# Altium integrated library NSC Switcher.IntLib: 2027 symbols (part 25 of 54)
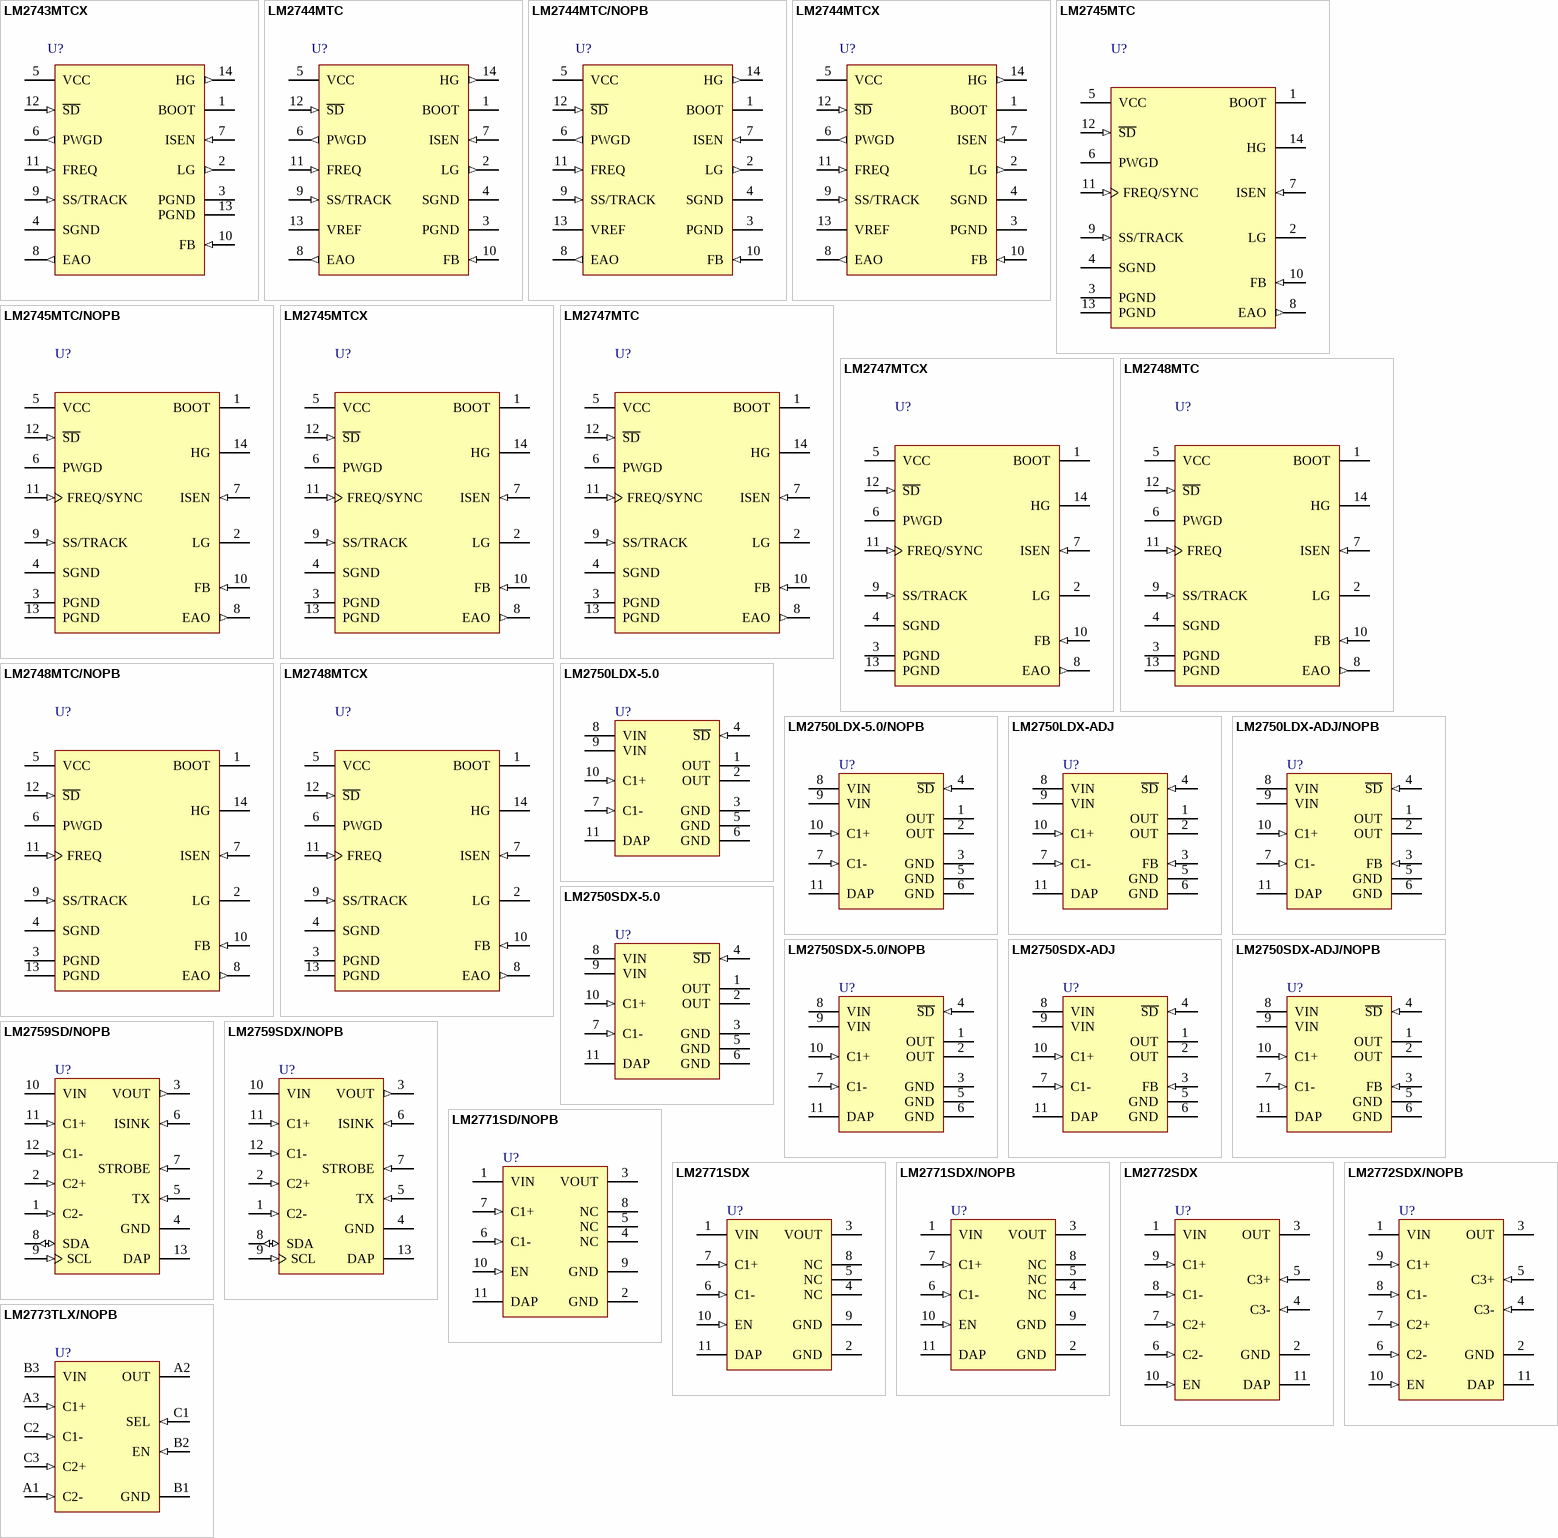
[diagram p87: symbols LM2743MTCX to LM2773TLX/NOPB]

## LM2745MTCX
designator U?
Synchronous Buck Controller with Pre-bias Startup, and Optional Clock Synchronization, 14-pin TSSOP; PartNumber: LM2745MTCX; Manufacturer: National Semiconductor; PackageTopMarking: NSUZXYTT*2745*MTC; PowerWise: Y; CompType: Switcher; Published: 1-Mar-2010; DatasheetVersion: Jan-2009; PackageVersion: revD, Jun-2003; PackageReference: MTC14; Publisher: Altium Limited; PackageDescription: Molded TSSOP, JEDEC, 5 x 4.4 x 0.9mm Body, 14 Lead, 0.65mm Pitch; RoHS: N; PinCount: 14; Code_JEDEC: MO-153-AB-1; ComponentLink1Description: LM2745 Datasheet; ComponentLink1URL: http://www.national.com/ds/LM/LM2745.pdf; ComponentLink2Description: LM2745 Web Page; ComponentLink2URL: http://www.national.com/pf/LM/LM2745.html; ComponentLink3Description: MTC14 Package Page; ComponentLink3URL: http://www.national.com/packaging/folders/mtc14.html
footprint MTC14_N (TSOP, 14-Leads, Body 5x4.4mm, Pitch 0.65mm, IPC Medium Density)
footprint MTC14_L (TSOP, 14-Leads, Body 5x4.4mm, Pitch 0.65mm, IPC High Density)
footprint MTC14_M (TSOP, 14-Leads, Body 5x4.4mm, Pitch 0.65mm, IPC Low Density)
pins: 1 BOOT, 2 LG (power), 3 PGND (power), 4 SGND (power), 5 VCC (power), 6 PWGD (oc), 7 ISEN (in), 8 EAO (out), 9 SS/TRACK (in), 10 FB (in), 11 FREQ/SYNC (in), 12 ~{SD} (in), 13 PGND (power), 14 HG (power)

## LM2747MTC
designator U?
Synchronous Buck Controller with Pre-bias Startup, and Optional Clock Synchronization, 14-pin TSSOP; PartNumber: LM2747MTC; Manufacturer: National Semiconductor; PackageTopMarking: NSUZXYTT*2747*MTC; PowerWise: Y; CompType: Switcher; Published: 4-Dec-2008; DatasheetVersion: Mar-2006; PackageVersion: revD, Jun-2003; PackageReference: MTC14; Publisher: Altium Limited; PackageDescription: Molded TSSOP, JEDEC, 5 x 4.4 x 0.9mm Body, 14 Lead, 0.65mm Pitch; Supplier 1: Farnell; Supplier Part Number 1: 1286746; RoHS: N; PinCount: 14; Code_JEDEC: MO-153-AB-1; ComponentLink1Description: LM2747 Datasheet; ComponentLink1URL: http://www.national.com/ds/LM/LM2747.pdf; ComponentLink2Description: LM2747 Web Page; ComponentLink2URL: http://www.national.com/pf/LM/LM2747.html; ComponentLink3Description: MTC14 Package Page; ComponentLink3URL: http://www.national.com/packaging/folders/mtc14.html
footprint MTC14_N (TSOP, 14-Leads, Body 5x4.4mm, Pitch 0.65mm, IPC Medium Density)
footprint MTC14_L (TSOP, 14-Leads, Body 5x4.4mm, Pitch 0.65mm, IPC High Density)
footprint MTC14_M (TSOP, 14-Leads, Body 5x4.4mm, Pitch 0.65mm, IPC Low Density)
pins: 1 BOOT, 2 LG (power), 3 PGND (power), 4 SGND (power), 5 VCC (power), 6 PWGD (oc), 7 ISEN (in), 8 EAO (out), 9 SS/TRACK (in), 10 FB (in), 11 FREQ/SYNC (in), 12 ~{SD} (in), 13 PGND (power), 14 HG (power)

## LM2747MTCX
designator U?
Synchronous Buck Controller with Pre-bias Startup, and Optional Clock Synchronization, 14-pin TSSOP; PartNumber: LM2747MTCX; Manufacturer: National Semiconductor; PackageTopMarking: NSUZXYTT*2747*MTC; PowerWise: Y; CompType: Switcher; Published: 1-Mar-2010; DatasheetVersion: Mar-2006; PackageVersion: revD, Jun-2003; PackageReference: MTC14; Publisher: Altium Limited; PackageDescription: Molded TSSOP, JEDEC, 5 x 4.4 x 0.9mm Body, 14 Lead, 0.65mm Pitch; RoHS: N; PinCount: 14; Code_JEDEC: MO-153-AB-1; ComponentLink1Description: LM2747 Datasheet; ComponentLink1URL: http://www.national.com/ds/LM/LM2747.pdf; ComponentLink2Description: LM2747 Web Page; ComponentLink2URL: http://www.national.com/pf/LM/LM2747.html; ComponentLink3Description: MTC14 Package Page; ComponentLink3URL: http://www.national.com/packaging/folders/mtc14.html
footprint MTC14_N (TSOP, 14-Leads, Body 5x4.4mm, Pitch 0.65mm, IPC Medium Density)
footprint MTC14_L (TSOP, 14-Leads, Body 5x4.4mm, Pitch 0.65mm, IPC High Density)
footprint MTC14_M (TSOP, 14-Leads, Body 5x4.4mm, Pitch 0.65mm, IPC Low Density)
pins: 1 BOOT, 2 LG (power), 3 PGND (power), 4 SGND (power), 5 VCC (power), 6 PWGD (oc), 7 ISEN (in), 8 EAO (out), 9 SS/TRACK (in), 10 FB (in), 11 FREQ/SYNC (in), 12 ~{SD} (in), 13 PGND (power), 14 HG (power)

## LM2748MTC
designator U?
Synchronous Buck Controller with Pre-bias Startup, and Optional Clock Synchronization, 14-pin TSSOP; PartNumber: LM2748MTC; Manufacturer: National Semiconductor; PackageTopMarking: NSUZXYTT*2748*MTC; PowerWise: Y; CompType: Switcher; Published: 4-Dec-2008; DatasheetVersion: Jan-2009; PackageVersion: revD, Jun-2003; PackageReference: MTC14; Publisher: Altium Limited; PackageDescription: Molded TSSOP, JEDEC, 5 x 4.4 x 0.9mm Body, 14 Lead, 0.65mm Pitch; Supplier 1: Farnell; Supplier Part Number 1: 1286747; RoHS: N; PinCount: 14; Code_JEDEC: MO-153-AB-1; ComponentLink1Description: LM2748 Datasheet; ComponentLink1URL: http://www.national.com/ds/LM/LM2748.pdf; ComponentLink2Description: LM2748 Web Page; ComponentLink2URL: http://www.national.com/pf/LM/LM2748.html; ComponentLink3Description: MTC14 Package Page; ComponentLink3URL: http://www.national.com/packaging/folders/mtc14.html
footprint MTC14_N (TSOP, 14-Leads, Body 5x4.4mm, Pitch 0.65mm, IPC Medium Density)
footprint MTC14_L (TSOP, 14-Leads, Body 5x4.4mm, Pitch 0.65mm, IPC High Density)
footprint MTC14_M (TSOP, 14-Leads, Body 5x4.4mm, Pitch 0.65mm, IPC Low Density)
pins: 1 BOOT, 2 LG (power), 3 PGND (power), 4 SGND (power), 5 VCC (power), 6 PWGD (oc), 7 ISEN (in), 8 EAO (out), 9 SS/TRACK (in), 10 FB (in), 11 FREQ (in), 12 ~{SD} (in), 13 PGND (power), 14 HG (power)

## LM2748MTC/NOPB
designator U?
Synchronous Buck Controller with Pre-bias Startup, and Optional Clock Synchronization, 14-pin TSSOP, Pb-Free; PartNumber: LM2748MTC/NOPB; Manufacturer: National Semiconductor; PackageTopMarking: NSUZXYTT*2748*MTC; PowerWise: Y; CompType: Switcher; Published: 1-Mar-2010; DatasheetVersion: Jan-2009; PackageVersion: revD, Jun-2003; PackageReference: MTC14; Publisher: Altium Limited; PackageDescription: Molded TSSOP, JEDEC, 5 x 4.4 x 0.9mm Body, 14 Lead, 0.65mm Pitch; Supplier 1: Digi-Key; Supplier Part Number 1: LM2748MTC-ND; RoHS: Y; PinCount: 14; Code_JEDEC: MO-153-AB-1; ComponentLink1Description: LM2748 Datasheet; ComponentLink1URL: http://www.national.com/ds/LM/LM2748.pdf; ComponentLink2Description: LM2748 Web Page; ComponentLink2URL: http://www.national.com/pf/LM/LM2748.html; ComponentLink3Description: MTC14 Package Page; ComponentLink3URL: http://www.national.com/packaging/folders/mtc14.html
footprint MTC14_N (TSOP, 14-Leads, Body 5x4.4mm, Pitch 0.65mm, IPC Medium Density)
footprint MTC14_L (TSOP, 14-Leads, Body 5x4.4mm, Pitch 0.65mm, IPC High Density)
footprint MTC14_M (TSOP, 14-Leads, Body 5x4.4mm, Pitch 0.65mm, IPC Low Density)
pins: 1 BOOT, 2 LG (power), 3 PGND (power), 4 SGND (power), 5 VCC (power), 6 PWGD (oc), 7 ISEN (in), 8 EAO (out), 9 SS/TRACK (in), 10 FB (in), 11 FREQ (in), 12 ~{SD} (in), 13 PGND (power), 14 HG (power)

## LM2748MTCX
designator U?
Synchronous Buck Controller with Pre-bias Startup, and Optional Clock Synchronization, 14-pin TSSOP; PartNumber: LM2748MTCX; Manufacturer: National Semiconductor; PackageTopMarking: NSUZXYTT*2748*MTC; PowerWise: Y; CompType: Switcher; Published: 1-Mar-2010; DatasheetVersion: Jan-2009; PackageVersion: revD, Jun-2003; PackageReference: MTC14; Publisher: Altium Limited; PackageDescription: Molded TSSOP, JEDEC, 5 x 4.4 x 0.9mm Body, 14 Lead, 0.65mm Pitch; RoHS: N; PinCount: 14; Code_JEDEC: MO-153-AB-1; ComponentLink1Description: LM2748 Datasheet; ComponentLink1URL: http://www.national.com/ds/LM/LM2748.pdf; ComponentLink2Description: LM2748 Web Page; ComponentLink2URL: http://www.national.com/pf/LM/LM2748.html; ComponentLink3Description: MTC14 Package Page; ComponentLink3URL: http://www.national.com/packaging/folders/mtc14.html
footprint MTC14_N (TSOP, 14-Leads, Body 5x4.4mm, Pitch 0.65mm, IPC Medium Density)
footprint MTC14_L (TSOP, 14-Leads, Body 5x4.4mm, Pitch 0.65mm, IPC High Density)
footprint MTC14_M (TSOP, 14-Leads, Body 5x4.4mm, Pitch 0.65mm, IPC Low Density)
pins: 1 BOOT, 2 LG (power), 3 PGND (power), 4 SGND (power), 5 VCC (power), 6 PWGD (oc), 7 ISEN (in), 8 EAO (out), 9 SS/TRACK (in), 10 FB (in), 11 FREQ (in), 12 ~{SD} (in), 13 PGND (power), 14 HG (power)

## LM2750LDX-5.0
designator U?
Low Noise Regulator Switched Capacitor Boost Regulator, 10-pin LLP; PartNumber: LM2750LDX-5.0; Manufacturer: National Semiconductor; PackageTopMarking: ZXYTT*S002B; PowerWise: N; CompType: Switcher; Published: 1-Mar-2010; DatasheetVersion: Dec-2005; PackageVersion: revB, Jan-2003; PackageReference: LDA10A; Publisher: Altium Limited; PackageDescription: LLP, Plastic, Dual, 3 x 3 x 0.75mm Body, 10 Lead, 0.5mm Pitch; RoHS: N; PinCount: 10; ComponentLink1Description: LM2750 Datasheet; ComponentLink1URL: http://www.national.com/ds/LM/LM2750.pdf; ComponentLink2Description: LM2750 Web Page; ComponentLink2URL: http://www.national.com/pf/LM/LM2750.html; ComponentLink3Description: LDA10A Package Page; ComponentLink3URL: http://www.national.com/packaging/folders/lda10a.html
footprint LDA10A (PSON, 10-Leads, Body 3x3mm, Pitch 0.5mm, NSC Recommended)
pins: 1 OUT (power), 2 OUT (power), 3 GND (power), 4 ~{SD} (in), 5 GND (power), 6 GND (power), 7 C1- (in), 8 VIN (power), 9 VIN (power), 10 C1+ (in), 11 DAP (power)

## LM2750LDX-5.0/NOPB
designator U?
Low Noise Regulator Switched Capacitor Boost Regulator, 10-pin LLP, Pb-Free; PartNumber: LM2750LDX-5.0/NOPB; Manufacturer: National Semiconductor; PackageTopMarking: ZXYTT*S002B; PowerWise: N; CompType: Switcher; Published: 1-Mar-2010; DatasheetVersion: Dec-2005; PackageVersion: revB, Jan-2003; PackageReference: LDA10A; Publisher: Altium Limited; PackageDescription: LLP, Plastic, Dual, 3 x 3 x 0.75mm Body, 10 Lead, 0.5mm Pitch; Supplier 1: Digi-Key; Supplier Part Number 1: LM2750LDX-5.0-ND; RoHS: Y; PinCount: 10; ComponentLink1Description: LM2750 Datasheet; ComponentLink1URL: http://www.national.com/ds/LM/LM2750.pdf; ComponentLink2Description: LM2750 Web Page; ComponentLink2URL: http://www.national.com/pf/LM/LM2750.html; ComponentLink3Description: LDA10A Package Page; ComponentLink3URL: http://www.national.com/packaging/folders/lda10a.html
footprint LDA10A (PSON, 10-Leads, Body 3x3mm, Pitch 0.5mm, NSC Recommended)
pins: 1 OUT (power), 2 OUT (power), 3 GND (power), 4 ~{SD} (in), 5 GND (power), 6 GND (power), 7 C1- (in), 8 VIN (power), 9 VIN (power), 10 C1+ (in), 11 DAP (power)

## LM2750LDX-ADJ
designator U?
Low Noise Regulator Switched Capacitor Boost Regulator, 10-pin LLP; PartNumber: LM2750LDX-ADJ; Manufacturer: National Semiconductor; PackageTopMarking: ZXYTT*S003B; PowerWise: N; CompType: Switcher; Published: 1-Mar-2010; DatasheetVersion: Dec-2005; PackageVersion: revB, Jan-2003; PackageReference: LDA10A; Publisher: Altium Limited; PackageDescription: LLP, Plastic, Dual, 3 x 3 x 0.75mm Body, 10 Lead, 0.5mm Pitch; RoHS: N; PinCount: 10; ComponentLink1Description: LM2750 Datasheet; ComponentLink1URL: http://www.national.com/ds/LM/LM2750.pdf; ComponentLink2Description: LM2750 Web Page; ComponentLink2URL: http://www.national.com/pf/LM/LM2750.html; ComponentLink3Description: LDA10A Package Page; ComponentLink3URL: http://www.national.com/packaging/folders/lda10a.html
footprint LDA10A (PSON, 10-Leads, Body 3x3mm, Pitch 0.5mm, NSC Recommended)
pins: 1 OUT (power), 2 OUT (power), 3 FB (in), 4 ~{SD} (in), 5 GND (power), 6 GND (power), 7 C1- (in), 8 VIN (power), 9 VIN (power), 10 C1+ (in), 11 DAP (power)

## LM2750LDX-ADJ/NOPB
designator U?
Low Noise Regulator Switched Capacitor Boost Regulator, 10-pin LLP, Pb-Free; PartNumber: LM2750LDX-ADJ/NOPB; Manufacturer: National Semiconductor; PackageTopMarking: ZXYTT*S003B; PowerWise: N; CompType: Switcher; Published: 1-Mar-2010; DatasheetVersion: Dec-2005; PackageVersion: revB, Jan-2003; PackageReference: LDA10A; Publisher: Altium Limited; PackageDescription: LLP, Plastic, Dual, 3 x 3 x 0.75mm Body, 10 Lead, 0.5mm Pitch; Supplier 1: Digi-Key; Supplier Part Number 1: LM2750LDX-ADJ-ND; RoHS: Y; PinCount: 10; ComponentLink1Description: LM2750 Datasheet; ComponentLink1URL: http://www.national.com/ds/LM/LM2750.pdf; ComponentLink2Description: LM2750 Web Page; ComponentLink2URL: http://www.national.com/pf/LM/LM2750.html; ComponentLink3Description: LDA10A Package Page; ComponentLink3URL: http://www.national.com/packaging/folders/lda10a.html
footprint LDA10A (PSON, 10-Leads, Body 3x3mm, Pitch 0.5mm, NSC Recommended)
pins: 1 OUT (power), 2 OUT (power), 3 FB (in), 4 ~{SD} (in), 5 GND (power), 6 GND (power), 7 C1- (in), 8 VIN (power), 9 VIN (power), 10 C1+ (in), 11 DAP (power)

## LM2750SDX-5.0
designator U?
Low Noise Regulator Switched Capacitor Boost Regulator, 10-pin LLP; PartNumber: LM2750SDX-5.0; Manufacturer: National Semiconductor; PackageTopMarking: ZXYTT*S005B; PowerWise: N; CompType: Switcher; Published: 1-Mar-2010; DatasheetVersion: Dec-2005; PackageVersion: revA, Oct-2003; PackageReference: SDA10A; Publisher: Altium Limited; PackageDescription: LLP, Plastic, Dual, 3 x 3 x 0.8mm Body, 10 Lead, 0.5mm Pitch, No Pullback; RoHS: N; PinCount: 10; ComponentLink1Description: LM2750 Datasheet; ComponentLink1URL: http://www.national.com/ds/LM/LM2750.pdf; ComponentLink2Description: LM2750 Web Page; ComponentLink2URL: http://www.national.com/pf/LM/LM2750.html; ComponentLink3Description: SDA10A Package Page; ComponentLink3URL: http://www.national.com/packaging/folders/sda10a.html
footprint SDA10A (SON, 10-Leads, Body 3x3 mm, Pitch 0.5mm, NSC Recommended)
pins: 1 OUT (power), 2 OUT (power), 3 GND (power), 4 ~{SD} (in), 5 GND (power), 6 GND (power), 7 C1- (in), 8 VIN (power), 9 VIN (power), 10 C1+ (in), 11 DAP (power)

## LM2750SDX-5.0/NOPB
designator U?
Low Noise Regulator Switched Capacitor Boost Regulator, 10-pin LLP, Pb-Free; PartNumber: LM2750SDX-5.0/NOPB; Manufacturer: National Semiconductor; PackageTopMarking: ZXYTT*S005B; PowerWise: N; CompType: Switcher; Published: 1-Mar-2010; DatasheetVersion: Dec-2005; PackageVersion: revA, Oct-2003; PackageReference: SDA10A; Publisher: Altium Limited; PackageDescription: LLP, Plastic, Dual, 3 x 3 x 0.8mm Body, 10 Lead, 0.5mm Pitch, No Pullback; Supplier 1: Digi-Key; Supplier Part Number 1: LM2750SDX-5.0-ND; RoHS: Y; PinCount: 10; ComponentLink1Description: LM2750 Datasheet; ComponentLink1URL: http://www.national.com/ds/LM/LM2750.pdf; ComponentLink2Description: LM2750 Web Page; ComponentLink2URL: http://www.national.com/pf/LM/LM2750.html; ComponentLink3Description: SDA10A Package Page; ComponentLink3URL: http://www.national.com/packaging/folders/sda10a.html
footprint SDA10A (SON, 10-Leads, Body 3x3 mm, Pitch 0.5mm, NSC Recommended)
pins: 1 OUT (power), 2 OUT (power), 3 GND (power), 4 ~{SD} (in), 5 GND (power), 6 GND (power), 7 C1- (in), 8 VIN (power), 9 VIN (power), 10 C1+ (in), 11 DAP (power)

## LM2750SDX-ADJ
designator U?
Low Noise Regulator Switched Capacitor Boost Regulator, 10-pin LLP; PartNumber: LM2750SDX-ADJ; Manufacturer: National Semiconductor; PackageTopMarking: ZXYTT*S004B; PowerWise: N; CompType: Switcher; Published: 1-Mar-2010; DatasheetVersion: Dec-2005; PackageVersion: revA, Oct-2003; PackageReference: SDA10A; Publisher: Altium Limited; PackageDescription: LLP, Plastic, Dual, 3 x 3 x 0.8mm Body, 10 Lead, 0.5mm Pitch, No Pullback; RoHS: N; PinCount: 10; ComponentLink1Description: LM2750 Datasheet; ComponentLink1URL: http://www.national.com/ds/LM/LM2750.pdf; ComponentLink2Description: LM2750 Web Page; ComponentLink2URL: http://www.national.com/pf/LM/LM2750.html; ComponentLink3Description: SDA10A Package Page; ComponentLink3URL: http://www.national.com/packaging/folders/sda10a.html
footprint SDA10A (SON, 10-Leads, Body 3x3 mm, Pitch 0.5mm, NSC Recommended)
pins: 1 OUT (power), 2 OUT (power), 3 FB (in), 4 ~{SD} (in), 5 GND (power), 6 GND (power), 7 C1- (in), 8 VIN (power), 9 VIN (power), 10 C1+ (in), 11 DAP (power)

## LM2750SDX-ADJ/NOPB
designator U?
Low Noise Regulator Switched Capacitor Boost Regulator, 10-pin LLP, Pb-Free; PartNumber: LM2750SDX-ADJ/NOPB; Manufacturer: National Semiconductor; PackageTopMarking: ZXYTT*S004B; PowerWise: N; CompType: Switcher; Published: 1-Mar-2010; DatasheetVersion: Dec-2005; PackageVersion: revA, Oct-2003; PackageReference: SDA10A; Publisher: Altium Limited; PackageDescription: LLP, Plastic, Dual, 3 x 3 x 0.8mm Body, 10 Lead, 0.5mm Pitch, No Pullback; Supplier 1: Digi-Key; Supplier Part Number 1: LM2750SDX-ADJ-ND; RoHS: Y; PinCount: 10; ComponentLink1Description: LM2750 Datasheet; ComponentLink1URL: http://www.national.com/ds/LM/LM2750.pdf; ComponentLink2Description: LM2750 Web Page; ComponentLink2URL: http://www.national.com/pf/LM/LM2750.html; ComponentLink3Description: SDA10A Package Page; ComponentLink3URL: http://www.national.com/packaging/folders/sda10a.html
footprint SDA10A (SON, 10-Leads, Body 3x3 mm, Pitch 0.5mm, NSC Recommended)
pins: 1 OUT (power), 2 OUT (power), 3 FB (in), 4 ~{SD} (in), 5 GND (power), 6 GND (power), 7 C1- (in), 8 VIN (power), 9 VIN (power), 10 C1+ (in), 11 DAP (power)

## LM2759SD/NOPB
designator U?
1A Switched Capacitor Flash LED Driver with I2C Compatible Interface, 12-pin LLP, Pb-Free; PartNumber: LM2759SD/NOPB; Manufacturer: National Semiconductor; PackageTopMarking: ZXYTT*L2759; PowerWise: Y; CompType: Switcher; Published: 1-Mar-2010; DatasheetVersion: Feb-2010; PackageVersion: revB, Jul-2008; PackageReference: SDF12A; Publisher: Altium Limited; PackageDescription: LLP, Plastic, Dual, 3 x 3 x 0.8mm Body, 12 Lead, 0.4mm Pitch, No Pullback; Supplier 1: Digi-Key; Supplier Part Number 1: LM2759SDTR-ND; Supplier 2: Digi-Key; Supplier Part Number 2: LM2759SDCT-ND; Supplier 3: Digi-Key; Supplier Part Number 3: LM2759SDDKR-ND; RoHS: Y; PinCount: 12; ComponentLink1Description: LM2759 Datasheet; ComponentLink1URL: http://www.national.com/ds/LM/LM2759.pdf; ComponentLink2Description: LM2759 Web Page; ComponentLink2URL: http://www.national.com/pf/LM/LM2759.html; ComponentLink3Description: SDF12A Package Page; ComponentLink3URL: http://www.national.com/packaging/folders/sdf12a.html
footprint SDF12A (SON, 12-Leads, Body 3x3mm, Pitch 0.4mm, NSC Recommended)
pins: 1 C2- (in), 2 C2+ (in), 3 VOUT (out), 4 GND (power), 5 TX (in), 6 ISINK (in), 7 STROBE (in), 8 SDA (io), 9 SCL (in), 10 VIN (power), 11 C1+ (in), 12 C1- (in), 13 DAP (power)

## LM2759SDX/NOPB
designator U?
1A Switched Capacitor Flash LED Driver with I2C Compatible Interface, 12-pin LLP, Pb-Free; PartNumber: LM2759SDX/NOPB; Manufacturer: National Semiconductor; PackageTopMarking: ZXYTT*L2759; PowerWise: Y; CompType: Switcher; Published: 1-Mar-2010; DatasheetVersion: Feb-2010; PackageVersion: revB, Jul-2008; PackageReference: SDF12A; Publisher: Altium Limited; PackageDescription: LLP, Plastic, Dual, 3 x 3 x 0.8mm Body, 12 Lead, 0.4mm Pitch, No Pullback; Supplier 1: Digi-Key; Supplier Part Number 1: LM2759SDX-ND; RoHS: Y; PinCount: 12; ComponentLink1Description: LM2759 Datasheet; ComponentLink1URL: http://www.national.com/ds/LM/LM2759.pdf; ComponentLink2Description: LM2759 Web Page; ComponentLink2URL: http://www.national.com/pf/LM/LM2759.html; ComponentLink3Description: SDF12A Package Page; ComponentLink3URL: http://www.national.com/packaging/folders/sdf12a.html
footprint SDF12A (SON, 12-Leads, Body 3x3mm, Pitch 0.4mm, NSC Recommended)
pins: 1 C2- (in), 2 C2+ (in), 3 VOUT (out), 4 GND (power), 5 TX (in), 6 ISINK (in), 7 STROBE (in), 8 SDA (io), 9 SCL (in), 10 VIN (power), 11 C1+ (in), 12 C1- (in), 13 DAP (power)

## LM2771SD/NOPB
designator U?
Low-Ripple 250mA Switched Capacitor Step-Down DC/DC Converter, 10-pin LLP, Pb-Free; PartNumber: LM2771SD/NOPB; Manufacturer: National Semiconductor; PackageTopMarking: ZXYTT*L2771; PowerWise: N; CompType: Switcher; Published: 1-Mar-2010; DatasheetVersion: Mar-2006; PackageVersion: revA, Oct-2003; PackageReference: SDA10A; Publisher: Altium Limited; PackageDescription: LLP, Plastic, Dual, 3 x 3 x 0.8mm Body, 10 Lead, 0.5mm Pitch, No Pullback; Supplier 1: Digi-Key; Supplier Part Number 1: LM2771SDTR-ND; Supplier 2: Digi-Key; Supplier Part Number 2: LM2771SDCT-ND; Supplier 3: Digi-Key; Supplier Part Number 3: LM2771SDDKR-ND; RoHS: Y; PinCount: 10; ComponentLink1Description: LM2771 Datasheet; ComponentLink1URL: http://www.national.com/ds/LM/LM2771.pdf; ComponentLink2Description: LM2771 Web Page; ComponentLink2URL: http://www.national.com/pf/LM/LM2771.html; ComponentLink3Description: SDA10A Package Page; ComponentLink3URL: http://www.national.com/packaging/folders/sda10a.html
footprint SDA10A (SON, 10-Leads, Body 3x3 mm, Pitch 0.5mm, NSC Recommended)
pins: 1 VIN (power), 2 GND (power), 3 VOUT (power), 4 NC, 5 NC, 6 C1- (in), 7 C1+ (in), 8 NC, 9 GND (power), 10 EN (in), 11 DAP (power)

## LM2771SDX
designator U?
Low-Ripple 250mA Switched Capacitor Step-Down DC/DC Converter, 10-pin LLP; PartNumber: LM2771SDX; Manufacturer: National Semiconductor; PackageTopMarking: ZXYTT*L2771; PowerWise: N; CompType: Switcher; Published: 1-Mar-2010; DatasheetVersion: Mar-2006; PackageVersion: revA, Oct-2003; PackageReference: SDA10A; Publisher: Altium Limited; PackageDescription: LLP, Plastic, Dual, 3 x 3 x 0.8mm Body, 10 Lead, 0.5mm Pitch, No Pullback; RoHS: N; PinCount: 10; ComponentLink1Description: LM2771 Datasheet; ComponentLink1URL: http://www.national.com/ds/LM/LM2771.pdf; ComponentLink2Description: LM2771 Web Page; ComponentLink2URL: http://www.national.com/pf/LM/LM2771.html; ComponentLink3Description: SDA10A Package Page; ComponentLink3URL: http://www.national.com/packaging/folders/sda10a.html
footprint SDA10A (SON, 10-Leads, Body 3x3 mm, Pitch 0.5mm, NSC Recommended)
pins: 1 VIN (power), 2 GND (power), 3 VOUT (power), 4 NC, 5 NC, 6 C1- (in), 7 C1+ (in), 8 NC, 9 GND (power), 10 EN (in), 11 DAP (power)

## LM2771SDX/NOPB
designator U?
Low-Ripple 250mA Switched Capacitor Step-Down DC/DC Converter, 10-pin LLP, Pb-Free; PartNumber: LM2771SDX/NOPB; Manufacturer: National Semiconductor; PackageTopMarking: ZXYTT*L2771; PowerWise: N; CompType: Switcher; Published: 1-Mar-2010; DatasheetVersion: Mar-2006; PackageVersion: revA, Oct-2003; PackageReference: SDA10A; Publisher: Altium Limited; PackageDescription: LLP, Plastic, Dual, 3 x 3 x 0.8mm Body, 10 Lead, 0.5mm Pitch, No Pullback; Supplier 1: Digi-Key; Supplier Part Number 1: LM2771SDX-ND; RoHS: Y; PinCount: 10; ComponentLink1Description: LM2771 Datasheet; ComponentLink1URL: http://www.national.com/ds/LM/LM2771.pdf; ComponentLink2Description: LM2771 Web Page; ComponentLink2URL: http://www.national.com/pf/LM/LM2771.html; ComponentLink3Description: SDA10A Package Page; ComponentLink3URL: http://www.national.com/packaging/folders/sda10a.html
footprint SDA10A (SON, 10-Leads, Body 3x3 mm, Pitch 0.5mm, NSC Recommended)
pins: 1 VIN (power), 2 GND (power), 3 VOUT (power), 4 NC, 5 NC, 6 C1- (in), 7 C1+ (in), 8 NC, 9 GND (power), 10 EN (in), 11 DAP (power)

## LM2772SDX
designator U?
Low-Ripple Switched Capacitor Step-Down Regulator, 10-pin LLP; PartNumber: LM2772SDX; Manufacturer: National Semiconductor; PackageTopMarking: ZXYTT*L2772; PowerWise: N; CompType: Switcher; Published: 1-Mar-2010; DatasheetVersion: Dec-2006; PackageVersion: revA, Oct-2003; PackageReference: SDA10A; Publisher: Altium Limited; PackageDescription: LLP, Plastic, Dual, 3 x 3 x 0.8mm Body, 10 Lead, 0.5mm Pitch, No Pullback; RoHS: N; PinCount: 10; ComponentLink1Description: LM2772 Datasheet; ComponentLink1URL: http://www.national.com/ds/LM/LM2772.pdf; ComponentLink2Description: LM2772 Web Page; ComponentLink2URL: http://www.national.com/pf/LM/LM2772.html; ComponentLink3Description: SDA10A Package Page; ComponentLink3URL: http://www.national.com/packaging/folders/sda10a.html
footprint SDA10A (SON, 10-Leads, Body 3x3 mm, Pitch 0.5mm, NSC Recommended)
pins: 1 VIN (power), 2 GND (power), 3 OUT (power), 4 C3- (in), 5 C3+ (in), 6 C2- (in), 7 C2+ (in), 8 C1- (in), 9 C1+ (in), 10 EN (in), 11 DAP (power)

## LM2772SDX/NOPB
designator U?
Low-Ripple Switched Capacitor Step-Down Regulator, 10-pin LLP, Pb-Free; PartNumber: LM2772SDX/NOPB; Manufacturer: National Semiconductor; PackageTopMarking: ZXYTT*L2772; PowerWise: N; CompType: Switcher; Published: 1-Mar-2010; DatasheetVersion: Dec-2006; PackageVersion: revA, Oct-2003; PackageReference: SDA10A; Publisher: Altium Limited; PackageDescription: LLP, Plastic, Dual, 3 x 3 x 0.8mm Body, 10 Lead, 0.5mm Pitch, No Pullback; Supplier 1: Digi-Key; Supplier Part Number 1: LM2772SDX-ND; RoHS: Y; PinCount: 10; ComponentLink1Description: LM2772 Datasheet; ComponentLink1URL: http://www.national.com/ds/LM/LM2772.pdf; ComponentLink2Description: LM2772 Web Page; ComponentLink2URL: http://www.national.com/pf/LM/LM2772.html; ComponentLink3Description: SDA10A Package Page; ComponentLink3URL: http://www.national.com/packaging/folders/sda10a.html
footprint SDA10A (SON, 10-Leads, Body 3x3 mm, Pitch 0.5mm, NSC Recommended)
pins: 1 VIN (power), 2 GND (power), 3 OUT (power), 4 C3- (in), 5 C3+ (in), 6 C2- (in), 7 C2+ (in), 8 C1- (in), 9 C1+ (in), 10 EN (in), 11 DAP (power)

## LM2773TLX/NOPB
designator U?
Low-Ripple 1.8V/1.6V Spread-Spectrum Switched Capacitor Step-Down Regulator, 9-pin Micro SMD, Pb-Free; PartNumber: LM2773TLX/NOPB; Manufacturer: National Semiconductor; PackageTopMarking: XV*I DJ; PowerWise: N; CompType: Switcher; Published: 1-Mar-2010; DatasheetVersion: Jan-2008; PackageVersion: revC, Jan-2004; PackageReference: TLA09ZZA; Publisher: Altium Limited; PackageDescription: Thin Micro SMD, 9 Bump (Large), 0.5mm Pitch; Supplier 1: Digi-Key; Supplier Part Number 1: LM2773TLX-ND; RoHS: Y; PinCount: 9; Code_JEDEC: MO-211-DD; ComponentLink1Description: LM2773 Datasheet; ComponentLink1URL: http://www.national.com/ds/LM/LM2773.pdf; ComponentLink2Description: LM2773 Web Page; ComponentLink2URL: http://www.national.com/pf/LM/LM2773.html; ComponentLink3Description: TLA09ZZA Package Page; ComponentLink3URL: http://www.national.com/packaging/folders/tla09zza.html
footprint TLA09ZZA (Micro SMD, 9-Leads, Body 1.47x1.47mm, Pitch 0.5mm, NSC Recommended)
pins: A1 C2- (in), A2 OUT (power), A3 C1+ (in), B1 GND (power), B2 EN (in), B3 VIN (power), C1 SEL (in), C2 C1- (in), C3 C2+ (in)

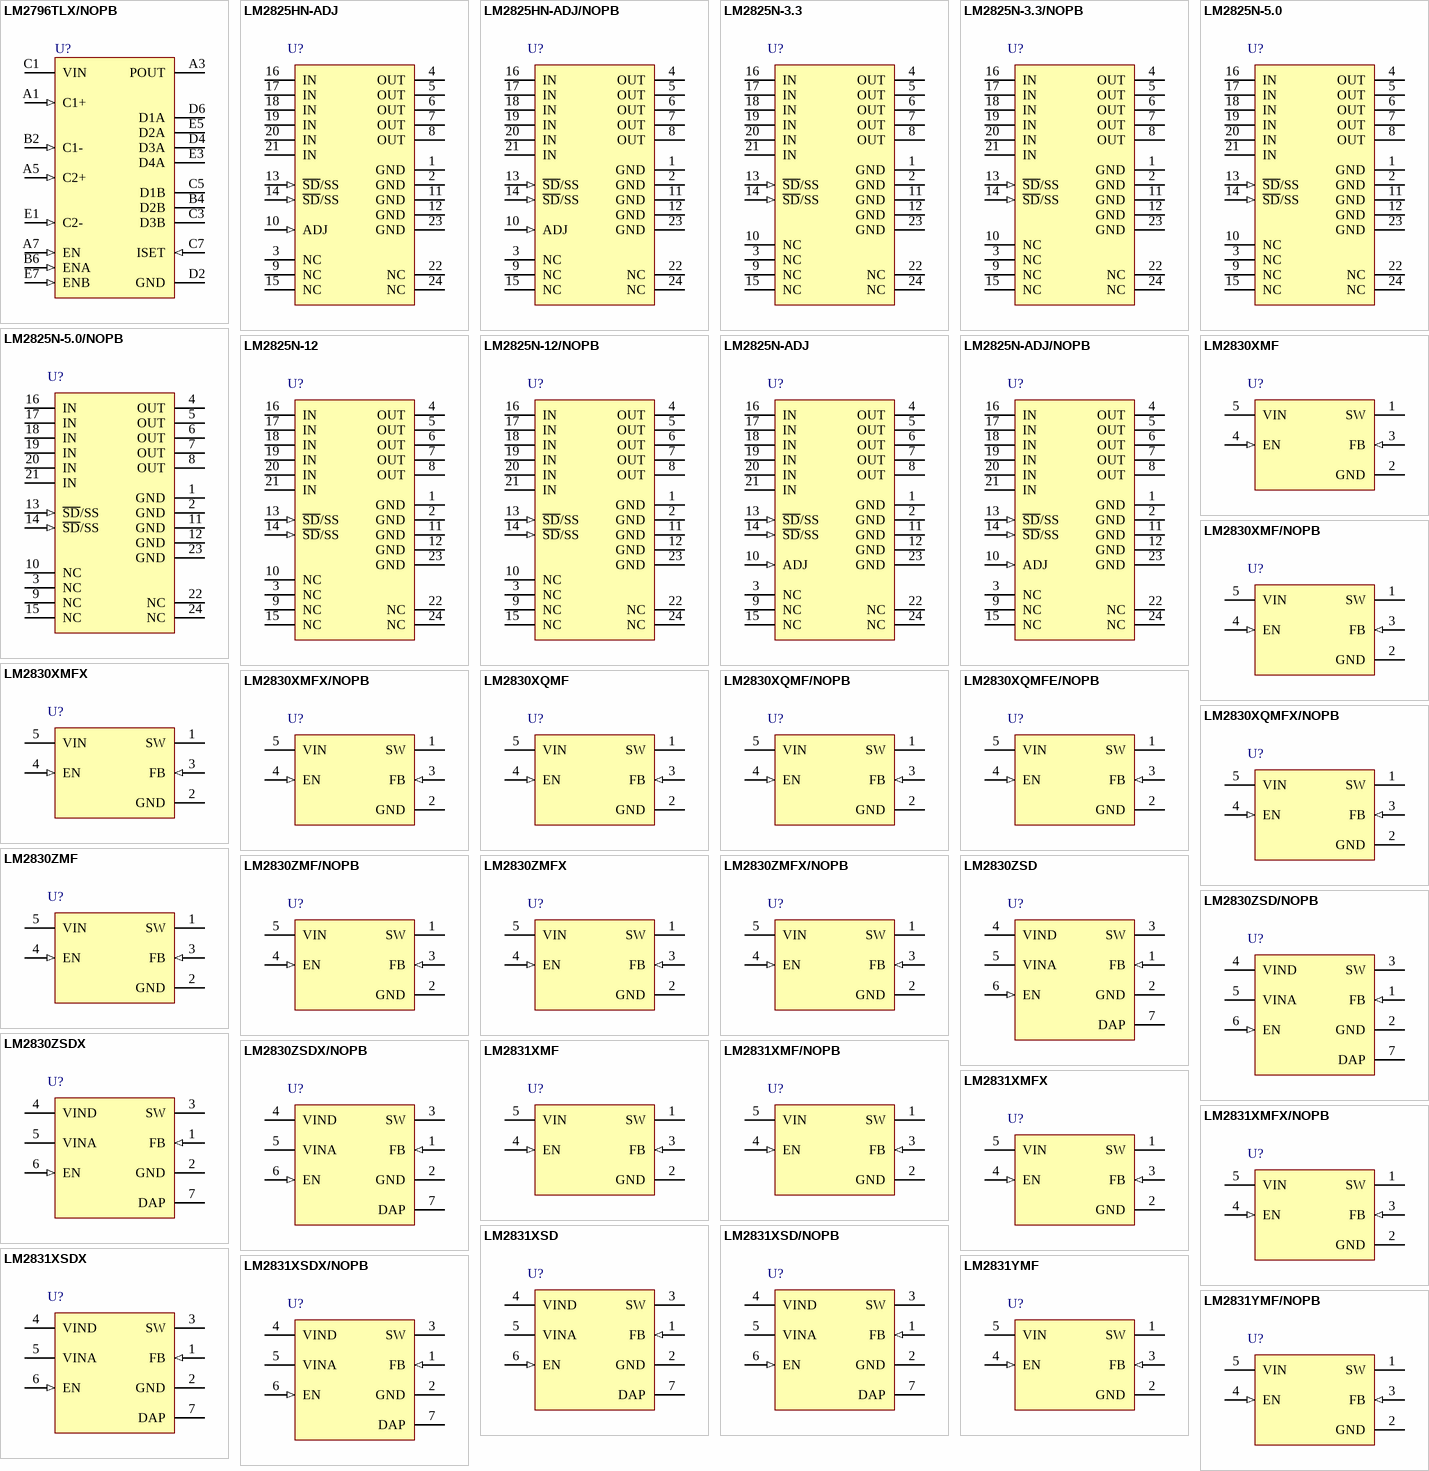
[diagram p27: symbols LM2796TLX/NOPB to LM2831YMF/NOPB]

## LM2796TLX/NOPB
designator U?
Dual-Display White LED Driver with 3/2x Switched Capacitor Boost, 18-pin Micro SMD, Pb-Free; PartNumber: LM2796TLX/NOPB; Manufacturer: National Semiconductor; PackageTopMarking: XYTT*I SAJB; PowerWise: Y; CompType: Switcher; Published: 1-Mar-2010; DatasheetVersion: Feb-2004; PackageVersion: revD, Jan-2005; PackageReference: TLA18EHA; Publisher: Altium Limited; PackageDescription: Thin Micro SMD, 18 Bump (Large), 0.5mm Pitch; Supplier 1: Digi-Key; Supplier Part Number 1: LM2796TLX-ND; RoHS: Y; PinCount: 18; ComponentLink1Description: LM2796 Datasheet; ComponentLink1URL: http://www.national.com/ds/LM/LM2796.pdf; ComponentLink2Description: LM2796 Web Page; ComponentLink2URL: http://www.national.com/pf/LM/LM2796.html; ComponentLink3Description: TLA18EHA Package Page; ComponentLink3URL: http://www.national.com/packaging/folders/tla18eha.html
footprint TLA18EHA (Micro SMD, 18-Leads, Body 2.4x2.1mm, Pitch 0.5mm, NSC Recommended)
pins: A1 C1+ (in), A3 POUT (power), A5 C2+ (in), A7 EN (in), B2 C1- (in), B4 D2B (oc), B6 ENA (in), C1 VIN (power), C3 D3B (oc), C5 D1B (oc), C7 ISET (in), D2 GND (power), D4 D3A (oc), D6 D1A (oc), E1 C2- (in), E3 D4A (oc), E5 D2A (oc), E7 ENB (in)

## LM2825HN-ADJ
designator U?
Integrated Power Supply 1A DC-DC Converter, 24-pin MDIP; PartNumber: LM2825HN-ADJ; Manufacturer: National Semiconductor; PackageTopMarking: @SIMPLE SWITCHERTM*ZXXYYTT*LM2825HN-ADJ*ADJ, 1A OUTPUT; PowerWise: N; CompType: Switcher; Published: 4-Dec-2008; DatasheetVersion: May-1997; PackageVersion: revD, Feb-1996; PackageReference: NA24F; Publisher: Altium Limited; PackageDescription: Molded Dip, 24 Lead, IPS1; Supplier 1: Farnell; Supplier Part Number 1: 8221987; RoHS: N; PinCount: 24; ComponentLink1Description: LM2825 Datasheet; ComponentLink1URL: http://www.national.com/ds/LM/LM2825.pdf; ComponentLink2Description: LM2825 Web Page; ComponentLink2URL: http://www.national.com/pf/LM/LM2825.html; ComponentLink3Description: NA24F Package Page; ComponentLink3URL: http://www.national.com/packaging/folders/na24f.html
footprint NA24F (DIP, 24-Leads, Row Spacing 15.24mm, Pitch 2.54mm, Body 31.75x13.72mm)
pins: 1 GND (power), 2 GND (power), 3 NC, 4 OUT (power), 5 OUT (power), 6 OUT (power), 7 OUT (power), 8 OUT (power), 9 NC, 10 ADJ (in), 11 GND (power), 12 GND (power), 13 ~{SD}/SS (in), 14 ~{SD}/SS (in), 15 NC, 16 IN (power), 17 IN (power), 18 IN (power), 19 IN (power), 20 IN (power), 21 IN (power), 22 NC, 23 GND (power), 24 NC

## LM2825HN-ADJ/NOPB
designator U?
Integrated Power Supply 1A DC-DC Converter, 24-pin MDIP, Pb-Free; PartNumber: LM2825HN-ADJ/NOPB; Manufacturer: National Semiconductor; PackageTopMarking: @SIMPLE SWITCHERTM*ZXXYYTT*LM2825HN-ADJ*ADJ, 1A OUTPUT; PowerWise: N; CompType: Switcher; Published: 1-Mar-2010; DatasheetVersion: May-1997; PackageVersion: revD, Feb-1996; PackageReference: NA24F; Publisher: Altium Limited; PackageDescription: Molded Dip, 24 Lead, IPS1; Supplier 1: Digi-Key; Supplier Part Number 1: LM2825HN-ADJ-ND; RoHS: Y; PinCount: 24; ComponentLink1Description: LM2825 Datasheet; ComponentLink1URL: http://www.national.com/ds/LM/LM2825.pdf; ComponentLink2Description: LM2825 Web Page; ComponentLink2URL: http://www.national.com/pf/LM/LM2825.html; ComponentLink3Description: NA24F Package Page; ComponentLink3URL: http://www.national.com/packaging/folders/na24f.html
footprint NA24F (DIP, 24-Leads, Row Spacing 15.24mm, Pitch 2.54mm, Body 31.75x13.72mm)
pins: 1 GND (power), 2 GND (power), 3 NC, 4 OUT (power), 5 OUT (power), 6 OUT (power), 7 OUT (power), 8 OUT (power), 9 NC, 10 ADJ (in), 11 GND (power), 12 GND (power), 13 ~{SD}/SS (in), 14 ~{SD}/SS (in), 15 NC, 16 IN (power), 17 IN (power), 18 IN (power), 19 IN (power), 20 IN (power), 21 IN (power), 22 NC, 23 GND (power), 24 NC

## LM2825N-3.3
designator U?
Integrated Power Supply 1A DC-DC Converter, 24-pin MDIP; PartNumber: LM2825N-3.3; Manufacturer: National Semiconductor; PackageTopMarking: @SIMPLE SWITCHERTM*ZXXYYTT*LM2825N-3.3*3.3V, 1A OUTPUT; PowerWise: N; CompType: Switcher; Published: 4-Dec-2008; DatasheetVersion: May-1997; PackageVersion: revD, Feb-1996; PackageReference: NA24F; Publisher: Altium Limited; PackageDescription: Molded Dip, 24 Lead, IPS1; Supplier 1: Farnell; Supplier Part Number 1: 9493891; RoHS: N; PinCount: 24; ComponentLink1Description: LM2825 Datasheet; ComponentLink1URL: http://www.national.com/ds/LM/LM2825.pdf; ComponentLink2Description: LM2825 Web Page; ComponentLink2URL: http://www.national.com/pf/LM/LM2825.html; ComponentLink3Description: NA24F Package Page; ComponentLink3URL: http://www.national.com/packaging/folders/na24f.html
footprint NA24F (DIP, 24-Leads, Row Spacing 15.24mm, Pitch 2.54mm, Body 31.75x13.72mm)
pins: 1 GND (power), 2 GND (power), 3 NC, 4 OUT (power), 5 OUT (power), 6 OUT (power), 7 OUT (power), 8 OUT (power), 9 NC, 10 NC, 11 GND (power), 12 GND (power), 13 ~{SD}/SS (in), 14 ~{SD}/SS (in), 15 NC, 16 IN (power), 17 IN (power), 18 IN (power), 19 IN (power), 20 IN (power), 21 IN (power), 22 NC, 23 GND (power), 24 NC

## LM2825N-3.3/NOPB
designator U?
Integrated Power Supply 1A DC-DC Converter, 24-pin MDIP, Pb-Free; PartNumber: LM2825N-3.3/NOPB; Manufacturer: National Semiconductor; PackageTopMarking: @SIMPLE SWITCHERTM*ZXXYYTT*LM2825N-3.3*3.3V, 1A OUTPUT; PowerWise: N; CompType: Switcher; Published: 1-Mar-2010; DatasheetVersion: May-1997; PackageVersion: revD, Feb-1996; PackageReference: NA24F; Publisher: Altium Limited; PackageDescription: Molded Dip, 24 Lead, IPS1; Supplier 1: Digi-Key; Supplier Part Number 1: LM2825N-3.3-ND; RoHS: Y; PinCount: 24; ComponentLink1Description: LM2825 Datasheet; ComponentLink1URL: http://www.national.com/ds/LM/LM2825.pdf; ComponentLink2Description: LM2825 Web Page; ComponentLink2URL: http://www.national.com/pf/LM/LM2825.html; ComponentLink3Description: NA24F Package Page; ComponentLink3URL: http://www.national.com/packaging/folders/na24f.html
footprint NA24F (DIP, 24-Leads, Row Spacing 15.24mm, Pitch 2.54mm, Body 31.75x13.72mm)
pins: 1 GND (power), 2 GND (power), 3 NC, 4 OUT (power), 5 OUT (power), 6 OUT (power), 7 OUT (power), 8 OUT (power), 9 NC, 10 NC, 11 GND (power), 12 GND (power), 13 ~{SD}/SS (in), 14 ~{SD}/SS (in), 15 NC, 16 IN (power), 17 IN (power), 18 IN (power), 19 IN (power), 20 IN (power), 21 IN (power), 22 NC, 23 GND (power), 24 NC

## LM2825N-5.0
designator U?
Integrated Power Supply 1A DC-DC Converter, 24-pin MDIP; PartNumber: LM2825N-5.0; Manufacturer: National Semiconductor; PackageTopMarking: @SIMPLE SWITCHERTM*ZXXYYTT*LM2825N-5.0*5.0V, 1A OUTPUT; PowerWise: N; CompType: Switcher; Published: 4-Dec-2008; DatasheetVersion: May-1997; PackageVersion: revD, Feb-1996; PackageReference: NA24F; Publisher: Altium Limited; PackageDescription: Molded Dip, 24 Lead, IPS1; Supplier 1: Farnell; Supplier Part Number 1: 1523862; Supplier 2: Farnell; Supplier Part Number 2: 9493883; RoHS: N; PinCount: 24; ComponentLink1Description: LM2825 Datasheet; ComponentLink1URL: http://www.national.com/ds/LM/LM2825.pdf; ComponentLink2Description: LM2825 Web Page; ComponentLink2URL: http://www.national.com/pf/LM/LM2825.html; ComponentLink3Description: NA24F Package Page; ComponentLink3URL: http://www.national.com/packaging/folders/na24f.html
footprint NA24F (DIP, 24-Leads, Row Spacing 15.24mm, Pitch 2.54mm, Body 31.75x13.72mm)
pins: 1 GND (power), 2 GND (power), 3 NC, 4 OUT (power), 5 OUT (power), 6 OUT (power), 7 OUT (power), 8 OUT (power), 9 NC, 10 NC, 11 GND (power), 12 GND (power), 13 ~{SD}/SS (in), 14 ~{SD}/SS (in), 15 NC, 16 IN (power), 17 IN (power), 18 IN (power), 19 IN (power), 20 IN (power), 21 IN (power), 22 NC, 23 GND (power), 24 NC

## LM2825N-5.0/NOPB
designator U?
Integrated Power Supply 1A DC-DC Converter, 24-pin MDIP, Pb-Free; PartNumber: LM2825N-5.0/NOPB; Manufacturer: National Semiconductor; PackageTopMarking: @SIMPLE SWITCHERTM*ZXXYYTT*LM2825N-5.0*5.0V, 1A OUTPUT; PowerWise: N; CompType: Switcher; Published: 1-Mar-2010; DatasheetVersion: May-1997; PackageVersion: revD, Feb-1996; PackageReference: NA24F; Publisher: Altium Limited; PackageDescription: Molded Dip, 24 Lead, IPS1; Supplier 1: Digi-Key; Supplier Part Number 1: LM2825N-5.0-ND; Supplier 2: Farnell; Supplier Part Number 2: 1179711; RoHS: Y; PinCount: 24; ComponentLink1Description: LM2825 Datasheet; ComponentLink1URL: http://www.national.com/ds/LM/LM2825.pdf; ComponentLink2Description: LM2825 Web Page; ComponentLink2URL: http://www.national.com/pf/LM/LM2825.html; ComponentLink3Description: NA24F Package Page; ComponentLink3URL: http://www.national.com/packaging/folders/na24f.html
footprint NA24F (DIP, 24-Leads, Row Spacing 15.24mm, Pitch 2.54mm, Body 31.75x13.72mm)
pins: 1 GND (power), 2 GND (power), 3 NC, 4 OUT (power), 5 OUT (power), 6 OUT (power), 7 OUT (power), 8 OUT (power), 9 NC, 10 NC, 11 GND (power), 12 GND (power), 13 ~{SD}/SS (in), 14 ~{SD}/SS (in), 15 NC, 16 IN (power), 17 IN (power), 18 IN (power), 19 IN (power), 20 IN (power), 21 IN (power), 22 NC, 23 GND (power), 24 NC

## LM2825N-12
designator U?
Integrated Power Supply 1A DC-DC Converter, 24-pin MDIP; PartNumber: LM2825N-12; Manufacturer: National Semiconductor; PackageTopMarking: @SIMPLE SWITCHERTM*ZXXYYTT*LM2825N-12*12V, 1A OUTPUT; PowerWise: N; CompType: Switcher; Published: 4-Dec-2008; DatasheetVersion: May-1997; PackageVersion: revD, Feb-1996; PackageReference: NA24F; Publisher: Altium Limited; PackageDescription: Molded Dip, 24 Lead, IPS1; Supplier 1: Farnell; Supplier Part Number 1: 9486305; RoHS: N; PinCount: 24; ComponentLink1Description: LM2825 Datasheet; ComponentLink1URL: http://www.national.com/ds/LM/LM2825.pdf; ComponentLink2Description: LM2825 Web Page; ComponentLink2URL: http://www.national.com/pf/LM/LM2825.html; ComponentLink3Description: NA24F Package Page; ComponentLink3URL: http://www.national.com/packaging/folders/na24f.html
footprint NA24F (DIP, 24-Leads, Row Spacing 15.24mm, Pitch 2.54mm, Body 31.75x13.72mm)
pins: 1 GND (power), 2 GND (power), 3 NC, 4 OUT (power), 5 OUT (power), 6 OUT (power), 7 OUT (power), 8 OUT (power), 9 NC, 10 NC, 11 GND (power), 12 GND (power), 13 ~{SD}/SS (in), 14 ~{SD}/SS (in), 15 NC, 16 IN (power), 17 IN (power), 18 IN (power), 19 IN (power), 20 IN (power), 21 IN (power), 22 NC, 23 GND (power), 24 NC

## LM2825N-12/NOPB
designator U?
Integrated Power Supply 1A DC-DC Converter, 24-pin MDIP, Pb-Free; PartNumber: LM2825N-12/NOPB; Manufacturer: National Semiconductor; PackageTopMarking: @SIMPLE SWITCHERTM*ZXXYYTT*LM2825N-12*12V, 1A OUTPUT; PowerWise: N; CompType: Switcher; Published: 1-Mar-2010; DatasheetVersion: May-1997; PackageVersion: revD, Feb-1996; PackageReference: NA24F; Publisher: Altium Limited; PackageDescription: Molded Dip, 24 Lead, IPS1; Supplier 1: Digi-Key; Supplier Part Number 1: LM2825N-12-ND; RoHS: Y; PinCount: 24; ComponentLink1Description: LM2825 Datasheet; ComponentLink1URL: http://www.national.com/ds/LM/LM2825.pdf; ComponentLink2Description: LM2825 Web Page; ComponentLink2URL: http://www.national.com/pf/LM/LM2825.html; ComponentLink3Description: NA24F Package Page; ComponentLink3URL: http://www.national.com/packaging/folders/na24f.html
footprint NA24F (DIP, 24-Leads, Row Spacing 15.24mm, Pitch 2.54mm, Body 31.75x13.72mm)
pins: 1 GND (power), 2 GND (power), 3 NC, 4 OUT (power), 5 OUT (power), 6 OUT (power), 7 OUT (power), 8 OUT (power), 9 NC, 10 NC, 11 GND (power), 12 GND (power), 13 ~{SD}/SS (in), 14 ~{SD}/SS (in), 15 NC, 16 IN (power), 17 IN (power), 18 IN (power), 19 IN (power), 20 IN (power), 21 IN (power), 22 NC, 23 GND (power), 24 NC

## LM2825N-ADJ
designator U?
Integrated Power Supply 1A DC-DC Converter, 24-pin MDIP; PartNumber: LM2825N-ADJ; Manufacturer: National Semiconductor; PackageTopMarking: @SIMPLE SWITCHERTM*ZXXYYTT*LM2825N-ADJ*ADJ, 1A OUTPUT; PowerWise: N; CompType: Switcher; Published: 4-Dec-2008; DatasheetVersion: May-1997; PackageVersion: revD, Feb-1996; PackageReference: NA24F; Publisher: Altium Limited; PackageDescription: Molded Dip, 24 Lead, IPS1; Supplier 1: Farnell; Supplier Part Number 1: 9486313; RoHS: N; PinCount: 24; ComponentLink1Description: LM2825 Datasheet; ComponentLink1URL: http://www.national.com/ds/LM/LM2825.pdf; ComponentLink2Description: LM2825 Web Page; ComponentLink2URL: http://www.national.com/pf/LM/LM2825.html; ComponentLink3Description: NA24F Package Page; ComponentLink3URL: http://www.national.com/packaging/folders/na24f.html
footprint NA24F (DIP, 24-Leads, Row Spacing 15.24mm, Pitch 2.54mm, Body 31.75x13.72mm)
pins: 1 GND (power), 2 GND (power), 3 NC, 4 OUT (power), 5 OUT (power), 6 OUT (power), 7 OUT (power), 8 OUT (power), 9 NC, 10 ADJ (in), 11 GND (power), 12 GND (power), 13 ~{SD}/SS (in), 14 ~{SD}/SS (in), 15 NC, 16 IN (power), 17 IN (power), 18 IN (power), 19 IN (power), 20 IN (power), 21 IN (power), 22 NC, 23 GND (power), 24 NC

## LM2825N-ADJ/NOPB
designator U?
Integrated Power Supply 1A DC-DC Converter, 24-pin MDIP, Pb-Free; PartNumber: LM2825N-ADJ/NOPB; Manufacturer: National Semiconductor; PackageTopMarking: @SIMPLE SWITCHERTM*ZXXYYTT*LM2825N-ADJ*ADJ, 1A OUTPUT; PowerWise: N; CompType: Switcher; Published: 1-Mar-2010; DatasheetVersion: May-1997; PackageVersion: revD, Feb-1996; PackageReference: NA24F; Publisher: Altium Limited; PackageDescription: Molded Dip, 24 Lead, IPS1; Supplier 1: Digi-Key; Supplier Part Number 1: LM2825N-ADJ-ND; RoHS: Y; PinCount: 24; ComponentLink1Description: LM2825 Datasheet; ComponentLink1URL: http://www.national.com/ds/LM/LM2825.pdf; ComponentLink2Description: LM2825 Web Page; ComponentLink2URL: http://www.national.com/pf/LM/LM2825.html; ComponentLink3Description: NA24F Package Page; ComponentLink3URL: http://www.national.com/packaging/folders/na24f.html
footprint NA24F (DIP, 24-Leads, Row Spacing 15.24mm, Pitch 2.54mm, Body 31.75x13.72mm)
pins: 1 GND (power), 2 GND (power), 3 NC, 4 OUT (power), 5 OUT (power), 6 OUT (power), 7 OUT (power), 8 OUT (power), 9 NC, 10 ADJ (in), 11 GND (power), 12 GND (power), 13 ~{SD}/SS (in), 14 ~{SD}/SS (in), 15 NC, 16 IN (power), 17 IN (power), 18 IN (power), 19 IN (power), 20 IN (power), 21 IN (power), 22 NC, 23 GND (power), 24 NC

## LM2830XMF
designator U?
High Frequency 1.0A Load - Step-Down DC-DC Regulator, 5-pin SOT-23; PartNumber: LM2830XMF; Manufacturer: National Semiconductor; PackageTopMarking: SKTB*XTT; PowerWise: N; CompType: Switcher; Published: 4-Dec-2008; DatasheetVersion: May-2008; PackageVersion: revD, Aug-2008; PackageReference: MF05A; Publisher: Altium Limited; PackageDescription: Molded SOT-23, .115 x .063 x .040 in Body, 5 Lead, .0375 in Pitch; Supplier 1: Farnell; Supplier Part Number 1: 1271410; RoHS: N; PinCount: 5; ComponentLink1Description: LM2830 Datasheet; ComponentLink1URL: http://www.national.com/ds/LM/LM2830.pdf; ComponentLink2Description: LM2830 Web Page; ComponentLink2URL: http://www.national.com/pf/LM/LM2830.html; ComponentLink3Description: MF05A Package Page; ComponentLink3URL: http://www.national.com/packaging/folders/mf05a.html
footprint MF05A_N (SOT23, 5-Leads, Body 2.9x1.6mm, Pitch 0.95mm, Lead Span 2.8mm, IPC Medium Density)
footprint MF05A_L (SOT23, 5-Leads, Body 2.9x1.6mm, Pitch 0.95mm, Lead Span 2.8mm, IPC High Density)
footprint MF05A_M (SOT23, 5-Leads, Body 2.9x1.6mm, Pitch 0.95mm, Lead Span 2.8mm, IPC Low Density)
pins: 1 SW (power), 2 GND (power), 3 FB (in), 4 EN (in), 5 VIN (power)

## LM2830XMF/NOPB
designator U?
High Frequency 1.0A Load - Step-Down DC-DC Regulator, 5-pin SOT-23, Pb-Free; PartNumber: LM2830XMF/NOPB; Manufacturer: National Semiconductor; PackageTopMarking: SKTB*XTT; PowerWise: N; CompType: Switcher; Published: 1-Mar-2010; DatasheetVersion: May-2008; PackageVersion: revD, Aug-2008; PackageReference: MF05A; Publisher: Altium Limited; PackageDescription: Molded SOT-23, .115 x .063 x .040 in Body, 5 Lead, .0375 in Pitch; Supplier 1: Digi-Key; Supplier Part Number 1: LM2830XMFTR-ND; Supplier 2: Digi-Key; Supplier Part Number 2: LM2830XMFCT-ND; Supplier 3: Digi-Key; Supplier Part Number 3: LM2830XMFDKR-ND; Supplier 4: Farnell; Supplier Part Number 4: 1654259; RoHS: Y; PinCount: 5; ComponentLink1Description: LM2830 Datasheet; ComponentLink1URL: http://www.national.com/ds/LM/LM2830.pdf; ComponentLink2Description: LM2830 Web Page; ComponentLink2URL: http://www.national.com/pf/LM/LM2830.html; ComponentLink3Description: MF05A Package Page; ComponentLink3URL: http://www.national.com/packaging/folders/mf05a.html
footprint MF05A_N (SOT23, 5-Leads, Body 2.9x1.6mm, Pitch 0.95mm, Lead Span 2.8mm, IPC Medium Density)
footprint MF05A_L (SOT23, 5-Leads, Body 2.9x1.6mm, Pitch 0.95mm, Lead Span 2.8mm, IPC High Density)
footprint MF05A_M (SOT23, 5-Leads, Body 2.9x1.6mm, Pitch 0.95mm, Lead Span 2.8mm, IPC Low Density)
pins: 1 SW (power), 2 GND (power), 3 FB (in), 4 EN (in), 5 VIN (power)

## LM2830XMFX
designator U?
High Frequency 1.0A Load - Step-Down DC-DC Regulator, 5-pin SOT-23; PartNumber: LM2830XMFX; Manufacturer: National Semiconductor; PackageTopMarking: SKTB*XTT; PowerWise: N; CompType: Switcher; Published: 1-Mar-2010; DatasheetVersion: May-2008; PackageVersion: revD, Aug-2008; PackageReference: MF05A; Publisher: Altium Limited; PackageDescription: Molded SOT-23, .115 x .063 x .040 in Body, 5 Lead, .0375 in Pitch; RoHS: N; PinCount: 5; ComponentLink1Description: LM2830 Datasheet; ComponentLink1URL: http://www.national.com/ds/LM/LM2830.pdf; ComponentLink2Description: LM2830 Web Page; ComponentLink2URL: http://www.national.com/pf/LM/LM2830.html; ComponentLink3Description: MF05A Package Page; ComponentLink3URL: http://www.national.com/packaging/folders/mf05a.html
footprint MF05A_N (SOT23, 5-Leads, Body 2.9x1.6mm, Pitch 0.95mm, Lead Span 2.8mm, IPC Medium Density)
footprint MF05A_L (SOT23, 5-Leads, Body 2.9x1.6mm, Pitch 0.95mm, Lead Span 2.8mm, IPC High Density)
footprint MF05A_M (SOT23, 5-Leads, Body 2.9x1.6mm, Pitch 0.95mm, Lead Span 2.8mm, IPC Low Density)
pins: 1 SW (power), 2 GND (power), 3 FB (in), 4 EN (in), 5 VIN (power)

## LM2830XMFX/NOPB
designator U?
High Frequency 1.0A Load - Step-Down DC-DC Regulator, 5-pin SOT-23, Pb-Free; PartNumber: LM2830XMFX/NOPB; Manufacturer: National Semiconductor; PackageTopMarking: SKTB*XTT; PowerWise: N; CompType: Switcher; Published: 1-Mar-2010; DatasheetVersion: May-2008; PackageVersion: revD, Aug-2008; PackageReference: MF05A; Publisher: Altium Limited; PackageDescription: Molded SOT-23, .115 x .063 x .040 in Body, 5 Lead, .0375 in Pitch; Supplier 1: Digi-Key; Supplier Part Number 1: LM2830XMFX-ND; RoHS: Y; PinCount: 5; ComponentLink1Description: LM2830 Datasheet; ComponentLink1URL: http://www.national.com/ds/LM/LM2830.pdf; ComponentLink2Description: LM2830 Web Page; ComponentLink2URL: http://www.national.com/pf/LM/LM2830.html; ComponentLink3Description: MF05A Package Page; ComponentLink3URL: http://www.national.com/packaging/folders/mf05a.html
footprint MF05A_N (SOT23, 5-Leads, Body 2.9x1.6mm, Pitch 0.95mm, Lead Span 2.8mm, IPC Medium Density)
footprint MF05A_L (SOT23, 5-Leads, Body 2.9x1.6mm, Pitch 0.95mm, Lead Span 2.8mm, IPC High Density)
footprint MF05A_M (SOT23, 5-Leads, Body 2.9x1.6mm, Pitch 0.95mm, Lead Span 2.8mm, IPC Low Density)
pins: 1 SW (power), 2 GND (power), 3 FB (in), 4 EN (in), 5 VIN (power)

## LM2830XQMF
designator U?
High Frequency 1.0A Load - Step-Down DC-DC Regulator, 5-pin SOT-23; PartNumber: LM2830XQMF; Manufacturer: National Semiconductor; PackageTopMarking: SUFB*XTT; PowerWise: N; CompType: Switcher; Published: 4-Dec-2008; DatasheetVersion: May-2008; PackageVersion: revD, Aug-2008; PackageReference: MF05A; Publisher: Altium Limited; PackageDescription: Molded SOT-23, .115 x .063 x .040 in Body, 5 Lead, .0375 in Pitch; RoHS: Y; PinCount: 5; ComponentLink1Description: LM2830 Datasheet; ComponentLink1URL: http://www.national.com/ds/LM/LM2830.pdf; ComponentLink2Description: LM2830 Web Page; ComponentLink2URL: http://www.national.com/pf/LM/LM2830.html; ComponentLink3Description: MF05A Package Page; ComponentLink3URL: http://www.national.com/packaging/folders/mf05a.html
footprint MF05A_N (SOT23, 5-Leads, Body 2.9x1.6mm, Pitch 0.95mm, Lead Span 2.8mm, IPC Medium Density)
footprint MF05A_L (SOT23, 5-Leads, Body 2.9x1.6mm, Pitch 0.95mm, Lead Span 2.8mm, IPC High Density)
footprint MF05A_M (SOT23, 5-Leads, Body 2.9x1.6mm, Pitch 0.95mm, Lead Span 2.8mm, IPC Low Density)
pins: 1 SW (power), 2 GND (power), 3 FB (in), 4 EN (in), 5 VIN (power)

## LM2830XQMF/NOPB
designator U?
High Frequency 1.0A Load - Step-Down DC-DC Regulator, 5-pin SOT-23, Pb-Free; PartNumber: LM2830XQMF/NOPB; Manufacturer: National Semiconductor; PackageTopMarking: SUFB*XTT; PowerWise: N; CompType: Switcher; Published: 1-Mar-2010; DatasheetVersion: May-2008; PackageVersion: revD, Aug-2008; PackageReference: MF05A; Publisher: Altium Limited; PackageDescription: Molded SOT-23, .115 x .063 x .040 in Body, 5 Lead, .0375 in Pitch; Supplier 1: Digi-Key; Supplier Part Number 1: LM2830XQMF-ND; RoHS: Y; PinCount: 5; ComponentLink1Description: LM2830 Datasheet; ComponentLink1URL: http://www.national.com/ds/LM/LM2830.pdf; ComponentLink2Description: LM2830 Web Page; ComponentLink2URL: http://www.national.com/pf/LM/LM2830.html; ComponentLink3Description: MF05A Package Page; ComponentLink3URL: http://www.national.com/packaging/folders/mf05a.html
footprint MF05A_N (SOT23, 5-Leads, Body 2.9x1.6mm, Pitch 0.95mm, Lead Span 2.8mm, IPC Medium Density)
footprint MF05A_L (SOT23, 5-Leads, Body 2.9x1.6mm, Pitch 0.95mm, Lead Span 2.8mm, IPC High Density)
footprint MF05A_M (SOT23, 5-Leads, Body 2.9x1.6mm, Pitch 0.95mm, Lead Span 2.8mm, IPC Low Density)
pins: 1 SW (power), 2 GND (power), 3 FB (in), 4 EN (in), 5 VIN (power)

## LM2830XQMFE/NOPB
designator U?
High Frequency 1.0A Load - Step-Down DC-DC Regulator, 5-pin SOT-23, Pb-Free; PartNumber: LM2830XQMFE/NOPB; Manufacturer: National Semiconductor; PackageTopMarking: SUFB*XTT; PowerWise: N; CompType: Switcher; Published: 1-Mar-2010; DatasheetVersion: May-2008; PackageVersion: revD, Aug-2008; PackageReference: MF05A; Publisher: Altium Limited; PackageDescription: Molded SOT-23, .115 x .063 x .040 in Body, 5 Lead, .0375 in Pitch; Supplier 1: Digi-Key; Supplier Part Number 1: LM2830XQMFETR-ND; Supplier 2: Digi-Key; Supplier Part Number 2: LM2830XQMFECT-ND; Supplier 3: Digi-Key; Supplier Part Number 3: LM2830XQMFEDKR-ND; RoHS: Y; PinCount: 5; ComponentLink1Description: LM2830 Datasheet; ComponentLink1URL: http://www.national.com/ds/LM/LM2830.pdf; ComponentLink2Description: LM2830 Web Page; ComponentLink2URL: http://www.national.com/pf/LM/LM2830.html; ComponentLink3Description: MF05A Package Page; ComponentLink3URL: http://www.national.com/packaging/folders/mf05a.html
footprint MF05A_N (SOT23, 5-Leads, Body 2.9x1.6mm, Pitch 0.95mm, Lead Span 2.8mm, IPC Medium Density)
footprint MF05A_L (SOT23, 5-Leads, Body 2.9x1.6mm, Pitch 0.95mm, Lead Span 2.8mm, IPC High Density)
footprint MF05A_M (SOT23, 5-Leads, Body 2.9x1.6mm, Pitch 0.95mm, Lead Span 2.8mm, IPC Low Density)
pins: 1 SW (power), 2 GND (power), 3 FB (in), 4 EN (in), 5 VIN (power)